# Altium footprint library PCB_REAL2.PcbLib: 35 footprints (part 1 of 3)
Each footprint in its own frame and in the unit in brackets; x right, y up, seen from the top. Pads: shape width x height; smd on the part's side, far side on the other; paste and mask are expansions set on the pad; w line width, h text height; cw(c..) or ccw(c..) is an arc to the next point about the centre after c.
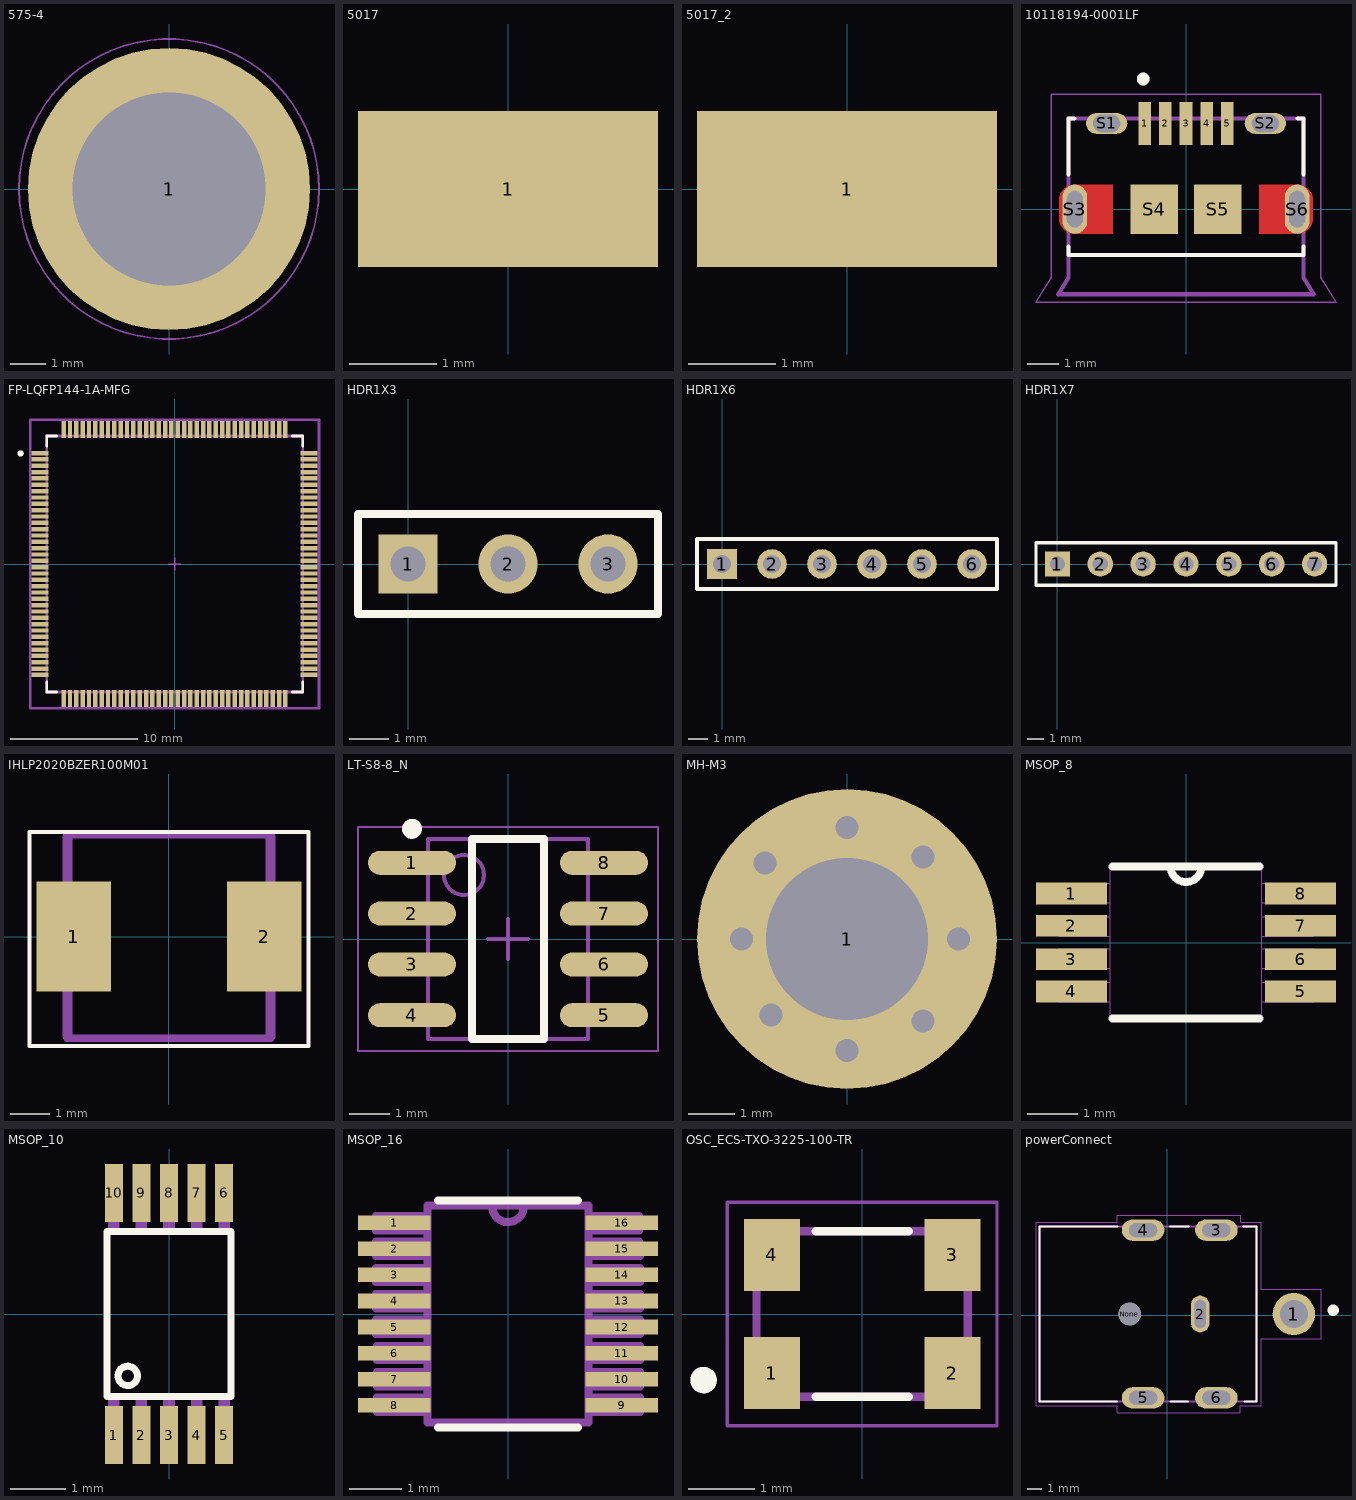
[diagram p0: the footprints below, top view; thin cyan lines are the x and y axes]

## 575-4 [mm]
pads (1):
  round 7.9 hole 5.4: 1(0,0)
Mechanical 15:
  circle w0.05: c0,0 r4.2

## 5017 [mil]
pads (1):
  rect 135x70 smd: 1(0,0)
3D body: height 60, standoff 0, extent -60,-30 60,30

## 5017_2 [mil]
pads (1):
  rect 135x70 smd: 1(0,0)
3D body: height 60, standoff 0, extent -60,-30 60,30

## 10118194-0001LF [mm]
pads (11):
  rect 0.4x1.35 smd: 1(-1.3,2.7) 2(-0.65,2.7) 3(0,2.7) 4(0.65,2.7) 5(1.3,2.7)
  oval 1.3x0.65 hole 0.55 slot 0.85 at 0 deg: S1(-2.5,2.7) S2(2.5,2.7)
  oval 0.775x1.55 hole 0.5 slot 1.15 at 90 deg: S3(-3.5,0) S6(3.5,0)
  rect 1.5x1.55 smd: S4(-1,0) S5(1,0)
Top Layer:
  region: 192 vertices and 0 holes, not listed, extent 2.3,-0.78 4,0.775
  region: 192 vertices and 0 holes, not listed, extent -4,-0.775 -2.3,0.78
Top Overlay:
  circle w0.2: c-1.35,4.1 r0.1
  lines w0.127: -3.7,-1.18 -3.7,-1.45 3.7,-1.45 3.7,-1.18 ; -3.7,1.095 -3.7,2.85 -3.52,2.85 ; 3.52,2.85 3.7,2.85 3.7,1.095
Top Paste:
  drawing of 6 lines, arcs and shapes, not listed
Top Solder:
  region: 3.626,0.874 3.652,0.872 3.678,0.869 3.704,0.864 3.729,0.858 3.755,0.851 3.779,0.842 3.803,0.832 3.827,0.821 3.85,0.808 3.872,0.794 3.894,0.78 3.915,0.764 3.935,0.747 3.954,0.729 3.972,0.71 3.989,0.69 4.005,0.669 4.019,0.647 4.033,0.625 4.046,0.602 4.057,0.578 4.067,0.554 4.076,0.53 4.083,0.504 4.089,0.479 4.094,0.453 4.097,0.427 4.099,0.401 4.1,0.375 4.1,-0.375 4.099,-0.401 4.097,-0.427 4.094,-0.453 4.089,-0.479 4.083,-0.504 4.076,-0.53 4.067,-0.554 4.057,-0.578 4.046,-0.602 4.033,-0.625 4.019,-0.647 4.005,-0.669 3.989,-0.69 3.972,-0.71 3.954,-0.729 3.935,-0.747 3.915,-0.764 3.894,-0.78 3.872,-0.794 3.85,-0.808 3.827,-0.821 3.803,-0.832 3.779,-0.842 3.755,-0.851 3.729,-0.858 3.704,-0.864 3.678,-0.869 3.652,-0.872 3.626,-0.874 3.6,-0.875 2.2,-0.875 2.2,0.875 3.6,0.875
  region: -2.2,-0.875 -3.6,-0.875 -3.626,-0.874 -3.652,-0.872 -3.678,-0.869 -3.704,-0.864 -3.729,-0.858 -3.755,-0.851 -3.779,-0.842 -3.803,-0.832 -3.827,-0.821 -3.85,-0.808 -3.872,-0.794 -3.894,-0.78 -3.915,-0.764 -3.935,-0.747 -3.954,-0.729 -3.972,-0.71 -3.989,-0.69 -4.005,-0.669 -4.019,-0.647 -4.033,-0.625 -4.046,-0.602 -4.057,-0.578 -4.067,-0.554 -4.076,-0.53 -4.083,-0.504 -4.089,-0.479 -4.094,-0.453 -4.097,-0.427 -4.099,-0.401 -4.1,-0.375 -4.1,0.375 -4.099,0.401 -4.097,0.427 -4.094,0.453 -4.089,0.479 -4.083,0.504 -4.076,0.53 -4.067,0.554 -4.057,0.578 -4.046,0.602 -4.033,0.625 -4.019,0.647 -4.005,0.669 -3.989,0.69 -3.972,0.71 -3.954,0.729 -3.935,0.747 -3.915,0.764 -3.894,0.78 -3.872,0.794 -3.85,0.808 -3.827,0.821 -3.803,0.832 -3.779,0.842 -3.755,0.851 -3.729,0.858 -3.704,0.864 -3.678,0.869 -3.652,0.872 -3.626,0.874 -3.6,0.875 -2.2,0.875
Mechanical 13:
  circle w0.2: c-1.35,4.1 r0.1
  lines w0.127: -3.7,-1.45 -3.7,-2.15 -4.025,-2.68 4.025,-2.68 3.7,-2.15 3.7,-1.45 ; -3.7,-1.45 -3.7,2.85 3.7,2.85 3.7,-1.45 ; -3.7,-1.45 3.7,-1.45
  text "PCB END" at -1.95,-2.1 h0.5
Mechanical 15:
  lines w0.05: -4.725,-2.93 -4.25,-2.15 -4.25,3.625 4.25,3.625 4.25,-2.15 4.725,-2.93 -4.725,-2.93
3D body "10118194-0001LF--3DModel-STEP-56544.STEP": height 0.15, standoff -3.12, extent -3.859,-2.638 4.191,2.892

## FP-LQFP144-1A-MFG [mm]
pads (144):
  rect 1.35x0.35 smd paste+0 mask+0: 1(-10.625,8.75) 2(-10.625,8.25) 3(-10.625,7.75) 4(-10.625,7.25) 5(-10.625,6.75) 6(-10.625,6.25) 7(-10.625,5.75) 8(-10.625,5.25) 9(-10.625,4.75) 10(-10.625,4.25) 11(-10.625,3.75) 12(-10.625,3.25) 13(-10.625,2.75) 14(-10.625,2.25) 15(-10.625,1.75) 16(-10.625,1.25) 17(-10.625,0.75) 18(-10.625,0.25) 19(-10.625,-0.25) 20(-10.625,-0.75) 21(-10.625,-1.25) 22(-10.625,-1.75) 23(-10.625,-2.25) 24(-10.625,-2.75) 25(-10.625,-3.25) 26(-10.625,-3.75) 27(-10.625,-4.25) 28(-10.625,-4.75) 29(-10.625,-5.25) 30(-10.625,-5.75) 31(-10.625,-6.25) 32(-10.625,-6.75) 33(-10.625,-7.25) 34(-10.625,-7.75) 35(-10.625,-8.25) 36(-10.625,-8.75) 73(10.625,-8.75) 74(10.625,-8.25) 75(10.625,-7.75) 76(10.625,-7.25) 77(10.625,-6.75) 78(10.625,-6.25) 79(10.625,-5.75) 80(10.625,-5.25) 81(10.625,-4.75) 82(10.625,-4.25) 83(10.625,-3.75) 84(10.625,-3.25) 85(10.625,-2.75) 86(10.625,-2.25) 87(10.625,-1.75) 88(10.625,-1.25) 89(10.625,-0.75) 90(10.625,-0.25) 91(10.625,0.25) 92(10.625,0.75) 93(10.625,1.25) 94(10.625,1.75) 95(10.625,2.25) 96(10.625,2.75) 97(10.625,3.25) 98(10.625,3.75) 99(10.625,4.25) 100(10.625,4.75) 101(10.625,5.25) 102(10.625,5.75) 103(10.625,6.25) 104(10.625,6.75) 105(10.625,7.25) 106(10.625,7.75) 107(10.625,8.25) 108(10.625,8.75)
  rect 0.35x1.35 smd paste+0 mask+0: 37(-8.75,-10.625) 38(-8.25,-10.625) 39(-7.75,-10.625) 40(-7.25,-10.625) 41(-6.75,-10.625) 42(-6.25,-10.625) 43(-5.75,-10.625) 44(-5.25,-10.625) 45(-4.75,-10.625) 46(-4.25,-10.625) 47(-3.75,-10.625) 48(-3.25,-10.625) 49(-2.75,-10.625) 50(-2.25,-10.625) 51(-1.75,-10.625) 52(-1.25,-10.625) 53(-0.75,-10.625) 54(-0.25,-10.625) 55(0.25,-10.625) 56(0.75,-10.625) 57(1.25,-10.625) 58(1.75,-10.625) 59(2.25,-10.625) 60(2.75,-10.625) 61(3.25,-10.625) 62(3.75,-10.625) 63(4.25,-10.625) 64(4.75,-10.625) 65(5.25,-10.625) 66(5.75,-10.625) 67(6.25,-10.625) 68(6.75,-10.625) 69(7.25,-10.625) 70(7.75,-10.625) 71(8.25,-10.625) 72(8.75,-10.625) 109(8.75,10.625) 110(8.25,10.625) 111(7.75,10.625) 112(7.25,10.625) 113(6.75,10.625) 114(6.25,10.625) 115(5.75,10.625) 116(5.25,10.625) 117(4.75,10.625) 118(4.25,10.625) 119(3.75,10.625) 120(3.25,10.625) 121(2.75,10.625) 122(2.25,10.625) 123(1.75,10.625) 124(1.25,10.625) 125(0.75,10.625) 126(0.25,10.625) 127(-0.25,10.625) 128(-0.75,10.625) 129(-1.25,10.625) 130(-1.75,10.625) 131(-2.25,10.625) 132(-2.75,10.625) 133(-3.25,10.625) 134(-3.75,10.625) 135(-4.25,10.625) 136(-4.75,10.625) 137(-5.25,10.625) 138(-5.75,10.625) 139(-6.25,10.625) 140(-6.75,10.625) 141(-7.25,10.625) 142(-7.75,10.625) 143(-8.25,10.625) 144(-8.75,10.625)
Top Overlay:
  circle w0.25: c-12.15,8.725 r0.125
  lines w0.2: -10.1,-9.3 -10.1,-10.1 -9.3,-10.1 ; -10.1,9.3 -10.1,10.1 -9.3,10.1 ; 9.3,-10.1 10.1,-10.1 10.1,-9.3 ; 9.3,10.1 10.1,10.1 10.1,9.3
Top 3D Body:
  lines w0.2: -10.1,-10.1 10.1,-10.1 10.1,10.1 -10.1,10.1 -10.1,-10.1
Top Courtyard:
  lines w0.2: -11.4,-11.4 11.4,-11.4 11.4,11.4 -11.4,11.4 -11.4,-11.4
Top Assembly:
  lines w0.2: -11.4,-11.4 11.4,-11.4 11.4,11.4 -11.4,11.4 -11.4,-11.4
  text ".Designator" at 0,0.189 h1
Top Component Center:
  lines w0.1: -0.5,0 0.5,0 ; 0,-0.5 0,0.5
3D body "IC_STMicroelectronics_STM32F767ZIT6_eec.STEP": height 0.25, standoff 0, extent -11.4,-11.4 11.4,11.4

## HDR1X3 [mm]
pads (3):
  rect 1.5x1.5 hole 0.9: 1(0,0)
  round 1.5 hole 0.9: 2(2.54,0) 3(5.08,0)
Top Overlay:
  lines w0.2: -1.27,-1.27 -1.27,1.27 6.35,1.27 6.35,-1.27 -1.27,-1.27

## HDR1X6 [mm]
pads (6):
  rect 1.5x1.5 hole 0.9: 1(0,0)
  round 1.5 hole 0.9: 2(2.54,0) 3(5.08,0) 4(7.62,0) 5(10.16,0) 6(12.7,0)
Top Overlay:
  lines w0.2: -1.27,-1.27 13.97,-1.27 13.97,1.27 -1.27,1.27 -1.27,-1.27

## HDR1X7 [mm]
pads (7):
  rect 1.5x1.5 hole 0.9: 1(0,0)
  round 1.5 hole 0.9: 2(2.54,0) 3(5.08,0) 4(7.62,0) 5(10.16,0) 6(12.7,0) 7(15.24,0)
Top Overlay:
  lines w0.2: -1.27,-1.27 16.51,-1.27 16.51,1.27 -1.27,1.27 -1.27,-1.27

## IHLP2020BZER100M01 [mm]
pads (2):
  rect 1.905x2.79 smd: 1(-2.425,0) 2(2.426,0)
Top Overlay:
  lines w0.1: -3.556,-2.794 3.556,-2.794 3.556,2.667 -3.556,2.667 -3.556,-2.794
Mechanical 15:
  lines w0.2: -2.59,-2.59 2.59,-2.59 ; -2.59,2.59 2.59,2.59
  lines w0.254: -2.59,-2.55 -2.59,2.55 ; 2.59,-2.55 2.59,2.55
3D body: height 2.54, standoff 0, extent -2.59,-2.55 2.59,2.55

## LT-S8-8_N [mm]
pads (8):
  oval 2.2x0.6 smd: 1(-2.4,1.905) 2(-2.4,0.635) 3(-2.4,-0.635) 4(-2.4,-1.905) 5(2.4,-1.905) 6(2.4,-0.635) 7(2.4,0.635) 8(2.4,1.905)
Top Overlay:
  circle w0.25: c-2.4,2.755 r0.125
  lines w0.2: -0.9,-2.5 -0.9,2.5 0.9,2.5 0.9,-2.5 -0.9,-2.5
Mechanical 13:
  circle w0.1: c-1.1,1.6 r0.5
  lines w0.1: -2,-2.5 -2,2.5 2,2.5 2,-2.5 -2,-2.5
Mechanical 15:
  lines w0.05: -3.75,-2.8 -3.75,2.8 3.75,2.8 3.75,-2.8 -3.75,-2.8
  lines w0.1: -0.5,0 0.5,0 ; 0,-0.5 0,0.5
3D body: height 1.76, standoff 0.1, extent -2,-2.5 2,2.5

## MH-M3 [mm]
pads (1):
  round 6.5 hole 3.5: 1(0,0)
via -1.651,-1.651 diameter 0.5 hole 0.5
via -2.286,0 diameter 0.5 hole 0.5
via -1.778,1.651 diameter 0.5 hole 0.5
via 0,-2.413 diameter 0.5 hole 0.5
via 1.651,-1.778 diameter 0.5 hole 0.5
via 0,2.413 diameter 0.5 hole 0.5
via 2.413,0 diameter 0.5 hole 0.5
via 1.651,1.778 diameter 0.5 hole 0.5

## MSOP_8 [mil]
pads (8):
  rect 55x17 smd: 1(-89,38) 2(-89,13) 3(-89,-13) 4(-89,-38) 5(89,-38) 6(89,-13) 7(89,13) 8(89,38)
Top Overlay:
  lines w6: -57,-59 57,-59 ; -57,59 -12,59 ; 57,59 12,59 ; -12,59 ccw(c0,59) 12,59 ; -12,59 12,59
Mechanical 13:
  lines w0: -59,-46 -99,-46 -99,-31 -59,-31 ; -59,-46 -59,-31 ; -59,-46 -59,-59 59,-59 59,-46 ; -59,-31 -59,-20 ; -59,-20 -99,-20 -99,-5 -59,-5 ; -59,-20 -59,-5 ; -59,-5 -59,5 ; -59,5 -99,5 -99,20 -59,20 ; -59,5 -59,20 ; -59,20 -59,31 ; -59,31 -99,31 -99,46 -59,46 ; -59,31 -59,46 ; -59,46 -59,59 -12,59 ; -12,59 ccw(c0,59) 12,59 ; -12,59 12,59 ; 12,59 59,59 59,46 ; 59,-46 99,-46 99,-31 59,-31 ; 59,-46 59,-31 ; 59,-31 59,-20 ; 59,-20 99,-20 99,-5 59,-5 ; 59,-20 59,-5 ; 59,-5 59,5 ; 59,5 99,5 99,20 59,20 ; 59,5 59,20 ; 59,20 59,31 ; 59,31 99,31 99,46 59,46 ; 59,31 59,46
3D body "step_temp.STEP": height 41.93, standoff -1.38, extent -96.45,-59.06 96.46,59.05

## MSOP_10 [mm]
pads (10):
  rect 0.32x1.05 smd: 1(-1,-2.2) 2(-0.5,-2.2) 3(0,-2.2) 4(0.5,-2.2) 5(1,-2.2) 6(1,2.2) 7(0.5,2.2) 8(0,2.2) 9(-0.5,2.2) 10(-1,2.2)
Top Overlay:
  circle w0.127: c-0.75,-1.125 r0.177
  lines w0: -0.125,-2.125 0.125,-2.125 ; 0,-2.25 0,-2
  lines w0.127: -1.125,-1.5 -1.125,1.5 1.125,1.5 1.125,-1.5 -1.125,-1.5
Mechanical 13:
  region: -0.9,1.5 -1.1,1.5 -1.1,2.1 -0.9,2.1
  region: -0.4,1.5 -0.6,1.5 -0.6,2.1 -0.4,2.1
  region: 0.1,1.5 -0.1,1.5 -0.1,2.1 0.1,2.1
  region: 0.6,1.5 0.4,1.5 0.4,2.1 0.6,2.1
  region: 1.1,1.5 0.9,1.5 0.9,2.1 1.1,2.1
  region: 1.1,-2.1 0.9,-2.1 0.9,-1.5 1.1,-1.5
  region: 0.6,-2.1 0.4,-2.1 0.4,-1.5 0.6,-1.5
  region: 0.1,-2.1 -0.1,-2.1 -0.1,-1.5 0.1,-1.5
  region: -0.4,-2.1 -0.6,-2.1 -0.6,-1.5 -0.4,-1.5
  region: -0.9,-2.1 -1.1,-2.1 -1.1,-1.5 -0.9,-1.5
3D body "AD9833BRMZ.STEP": height -0.39, standoff -1.49, extent -1.5,-2.45 1.5,2.45

## MSOP_16 [mil]
pads (16):
  rect 55x11 smd: 1(-86,68.95) 2(-86,49.25) 3(-86,29.55) 4(-86,9.85) 5(-86,-9.85) 6(-86,-29.55) 7(-86,-49.25) 8(-86,-68.95) 9(86,-68.95) 10(86,-49.25) 11(86,-29.55) 12(86,-9.85) 13(86,9.85) 14(86,29.55) 15(86,49.25) 16(86,68.95)
Top Overlay:
  lines w6: -53,-86 53,-86 ; -53,86 53,86
Mechanical 4:
  lines w6: -100,-15 -61,-15 ; -100,-15 -100,-4 ; -100,-15 -61,-15 ; -100,-15 -100,-4 ; -100,-4 -61,-4 ; -100,-4 -61,-4 ; -100,4 -61,4 ; -100,4 -100,15 ; -100,4 -61,4 ; -100,4 -100,15 ; -100,15 -61,15 ; -100,15 -61,15 ; -100,24 -61,24 ; -100,24 -100,35 ; -100,24 -61,24 ; -100,24 -100,35 ; -100,35 -61,35 ; -100,35 -61,35 ; -100,44 -61,44 ; -100,44 -100,55 ; -100,44 -61,44 ; -100,44 -100,55 ; -100,55 -61,55 ; -100,55 -61,55 ; -100,63 -61,63 ; -100,63 -100,74 ; -100,63 -61,63 ; -100,63 -100,74 ; -100,74 -61,74 ; -100,74 -61,74 ; -99,-74 -61,-74 ; -99,-74 -99,-63 ; -99,-74 -61,-74 ; -99,-74 -99,-63 ; -99,-63 -61,-63 ; -99,-63 -61,-63 ; -99,-55 -61,-55 ; -99,-55 -99,-44 ; -99,-55 -61,-55 ; -99,-55 -99,-44 ; -99,-44 -61,-44 ; -99,-44 -61,-44 ; -99,-35 -61,-35 ; -99,-35 -99,-24 ; -99,-35 -61,-35 ; -99,-35 -99,-24 ; -99,-24 -61,-24 ; -99,-24 -61,-24 ; -61,-82 -61,82 ; -61,-82 61,-82 ; -61,-82 -61,82 ; -61,-82 61,-82 ; -61,-74 -61,-63 ; -61,-74 -61,-63 ; -61,-55 -61,-44 ; -61,-55 -61,-44 ; -61,-35 -61,-24 ; -61,-35 -61,-24 ; -61,-15 -61,-4 ; -61,-15 -61,-4 ; -61,4 -61,15 ; -61,4 -61,15 ; -61,24 -61,35 ; -61,24 -61,35 ; -61,44 -61,55 ; -61,44 -61,55 ; -61,63 -61,74 ; -61,63 -61,74 ; -61,82 12,82 ; -61,82 12,82 ; 12,82 61,82 ; 12,82 61,82 ; 61,-82 61,82 ; 61,-82 61,82 ; 61,-74 100,-74 ; 61,-74 61,-63 ; 61,-74 100,-74 ; 61,-74 61,-63 ; 61,-63 100,-63 ; 61,-63 100,-63 ; 61,-55 100,-55 ; 61,-55 61,-44 ; 61,-55 100,-55 ; 61,-55 61,-44 ; 61,-44 100,-44 ; 61,-44 100,-44 ; 61,-35 100,-35 ; 61,-35 61,-24 ; 61,-35 100,-35 ; 61,-35 61,-24 ; 61,-24 100,-24 ; 61,-24 100,-24 ; 61,-15 100,-15 ; 61,-15 61,-4 ; 61,-15 100,-15 ; 61,-15 61,-4 ; 61,-4 100,-4 ; 61,-4 100,-4 ; 61,4 100,4 ; 61,4 61,15 ; 61,4 100,4 ; 61,4 61,15 ; 61,15 100,15 ; 61,15 100,15 ; 61,24 100,24 ; 61,24 61,35 ; 61,24 100,24 ; 61,24 61,35 ; 61,35 100,35 ; 61,35 100,35 ; 61,44 100,44 ; 61,44 61,55 ; 61,44 100,44 ; 61,44 61,55 ; 61,55 99,55 ; 61,55 99,55 ; 61,63 99,63 ; 61,63 61,74 ; 61,63 99,63 ; 61,63 61,74 ; 61,74 99,74 ; 61,74 99,74 ; 99,55 100,44 ; 99,55 100,44 ; 99,63 99,74 ; 99,63 99,74 ; 100,-74 100,-63 ; 100,-74 100,-63 ; 100,-55 100,-44 ; 100,-55 100,-44 ; 100,-35 100,-24 ; 100,-35 100,-24 ; 100,-15 100,-4 ; 100,-15 100,-4 ; 100,4 100,15 ; 100,4 100,15 ; 100,24 100,35 ; 100,24 100,35 ; -12,81.08 ccw(c0,81.5) 12,81.92 cw(c0,81.5) -12,81.08
3D body "LTC2368CMS-18#PBF.STEP": height 43.65, standoff 0.35, extent -96.45,-79.51 96.46,79.51

## OSC_ECS-TXO-3225-100-TR [mm]
pads (4):
  rect 0.85x1.09 smd: 1(-1.365,-0.895) 2(1.365,-0.895) 3(1.365,0.895) 4(-1.365,0.895)
Top Overlay:
  circle w0.2: c-2.4,-1 r0.1
  lines w0.127: -0.705,-1.25 0.705,-1.25 ; -0.705,1.25 0.705,1.25
Mechanical 13:
  circle w0.2: c-2.4,-1 r0.1
  lines w0.127: -1.6,-1.25 1.6,-1.25 1.6,1.25 -1.6,1.25 -1.6,-1.25
Mechanical 15:
  lines w0.05: -2.04,-1.69 2.04,-1.69 2.04,1.69 -2.04,1.69 -2.04,-1.69
3D body "ECS-TXO-3225-100-TR.STEP": height 1, standoff 0, extent -1.6,-1.25 1.6,1.25

## powerConnect [mm]
pads (7):
  round 3 hole 2: 1(8.969,0.085)
  oval 1.308x2.616 hole 0.8 slot 2 at 90 deg: 2(2.319,0.085)
  oval 3.016x1.508 hole 1 slot 2 at 0 deg: 3(3.469,6.035) 4(-1.731,6.035) 5(-1.731,-5.865) 6(3.469,-5.865)
  round 1.6 hole 1.6 unplated: None(-2.681,0.085)
Top Overlay:
  circle w0.4: c11.759,0.355 r0.2
  lines w0.127: -3.841,-6.115 -9.081,-6.115 -9.081,6.285 -3.841,6.285 ; -3.831,-6.115 -3.581,-6.115 ; -3.781,6.285 -3.531,6.285 ; 0.169,6.285 1.519,6.285 ; 0.219,-6.115 1.469,-6.115 ; 5.369,6.285 6.319,6.285 6.319,-6.115 5.469,-6.115
Mechanical 1:
  lines w0: -2.731,-5.865 cw(c-2.231,-5.865) -2.231,-5.365 -1.231,-5.365 cw(c-1.231,-5.865) -0.731,-5.865 cw(c-1.231,-5.865) -1.231,-6.365 -2.231,-6.365 cw(c-2.231,-5.865) -2.731,-5.865 ; -2.731,6.035 cw(c-2.231,6.035) -2.231,6.535 -1.231,6.535 cw(c-1.231,6.035) -0.731,6.035 cw(c-1.231,6.035) -1.231,5.535 -2.231,5.535 cw(c-2.231,6.035) -2.731,6.035 ; 1.919,-0.565 ccw(c2.319,-0.565) 2.319,-0.965 ccw(c2.319,-0.565) 2.719,-0.565 2.719,0.735 ccw(c2.319,0.735) 2.319,1.135 ccw(c2.319,0.735) 1.919,0.735 1.919,-0.565 ; 2.469,-5.865 cw(c2.969,-5.865) 2.969,-5.365 3.969,-5.365 cw(c3.969,-5.865) 4.469,-5.865 cw(c3.969,-5.865) 3.969,-6.365 2.969,-6.365 cw(c2.969,-5.865) 2.469,-5.865 ; 2.469,6.035 cw(c2.969,6.035) 2.969,6.535 3.969,6.535 cw(c3.969,6.035) 4.469,6.035 cw(c3.969,6.035) 3.969,5.535 2.969,5.535 cw(c2.969,6.035) 2.469,6.035
Mechanical 4:
  lines w0.127: -9.081,-6.115 6.319,-6.115 ; -9.081,-6.115 -9.081,6.285 ; -9.081,-6.115 6.319,-6.115 ; -9.081,-6.115 -9.081,6.285 ; -9.081,6.285 6.319,6.285 ; -9.081,6.285 6.319,6.285 ; 6.319,-6.115 6.319,6.285 ; 6.319,-6.115 6.319,6.285
Mechanical 16:
  lines w0.05: -9.331,-6.415 -3.581,-6.415 -3.581,-6.915 5.169,-6.915 5.169,-6.415 6.669,-6.415 6.669,-1.665 10.919,-1.665 10.919,1.835 6.669,1.835 6.669,6.585 5.169,6.585 5.159,7.105 -3.581,7.085 -3.581,6.585 -9.331,6.585 -9.331,-6.415